# Altium footprint library 7P_HEADER-SPE-TSM_107_01_L_SH.PcbLib: 1 footprints
Each footprint in its own frame and in the unit in brackets; x right, y up, seen from the top. Pads: shape width x height; smd on the part's side, far side on the other; paste and mask are expansions set on the pad; w line width, h text height; cw(c..) or ccw(c..) is an arc to the next point about the centre after c.
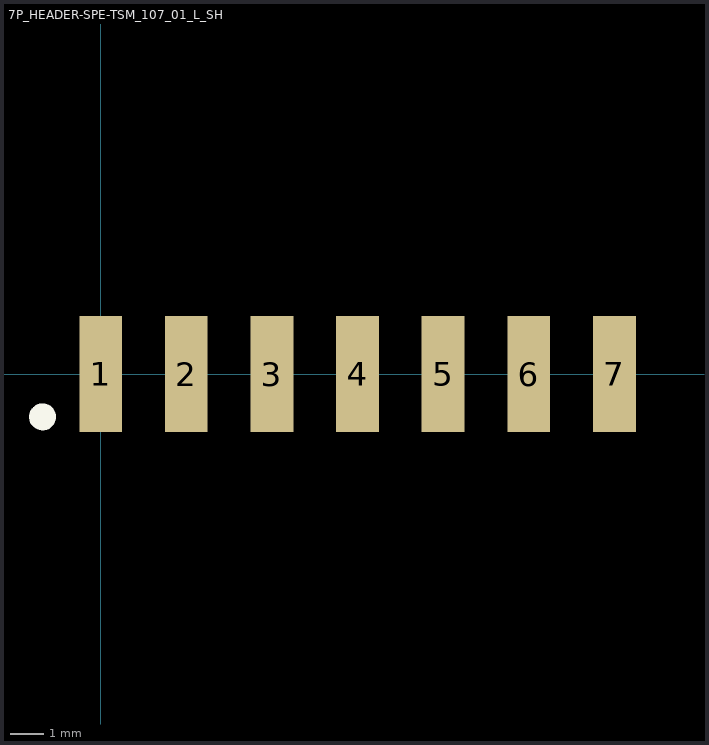
[diagram p0: the footprint, top view; thin cyan lines are the x and y axes]

## 7P_HEADER-SPE-TSM_107_01_L_SH [mm] "16 pin, 2.54mm header"
pads (7):
  rect 1.27x3.43 smd mask+0.051: 1(0,0) 2(2.54,0) 3(5.08,0) 4(7.62,0) 5(10.16,0) 6(12.7,0) 7(15.24,0)
Top Overlay:
  circle w0.4: c-1.724,-1.27 r0.2
3D body: height 3.02, standoff -0.02, extent -1.27,-1.016 16.51,11.938